# EAGLE library part HEADER-1X13 (library anykey)
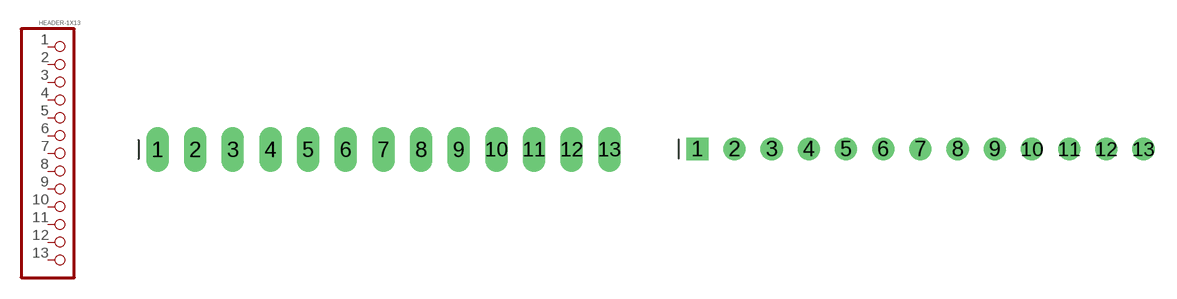
[diagram p33: symbol with the pads of 1X13_OVAL; footprints 1X13_OVAL, 1X13_ROUND]

Designator prefix P

## HEADER-1X13OVAL  [1X13_OVAL]
1  1  pas
2  2  pas
3  3  pas
4  4  pas
5  5  pas
6  6  pas
7  7  pas
8  8  pas
9  9  pas
10  10  pas
11  11  pas
12  12  pas
13  13  pas

## HEADER-1X13ROUND  [1X13_ROUND]
Pads as for 1X13_OVAL

## Footprint 1X13_OVAL (pad centres in mm)
drill 1 long: 1 -15.24,0; 2 -12.7,0; 3 -10.16,0; 4 -7.62,0; 5 -5.08,0; 6 -2.54,0; 7 0,0; 8 2.54,0; 9 5.08,0; 10 7.62,0; 11 10.16,0; 12 12.7,0; 13 15.24,0

## Footprint 1X13_ROUND (pad centres in mm)
drill 1 square: 1 -15.24,0
drill 1: 2 -12.7,0; 3 -10.16,0; 4 -7.62,0; 5 -5.08,0; 6 -2.54,0; 7 0,0; 8 2.54,0; 9 5.08,0; 10 7.62,0; 11 10.16,0; 12 12.7,0; 13 15.24,0